# Altium schematic symbol library Diodes.SchLib: 11 symbols
Pins are listed as number, name and electrical type; pins without a type are passive.

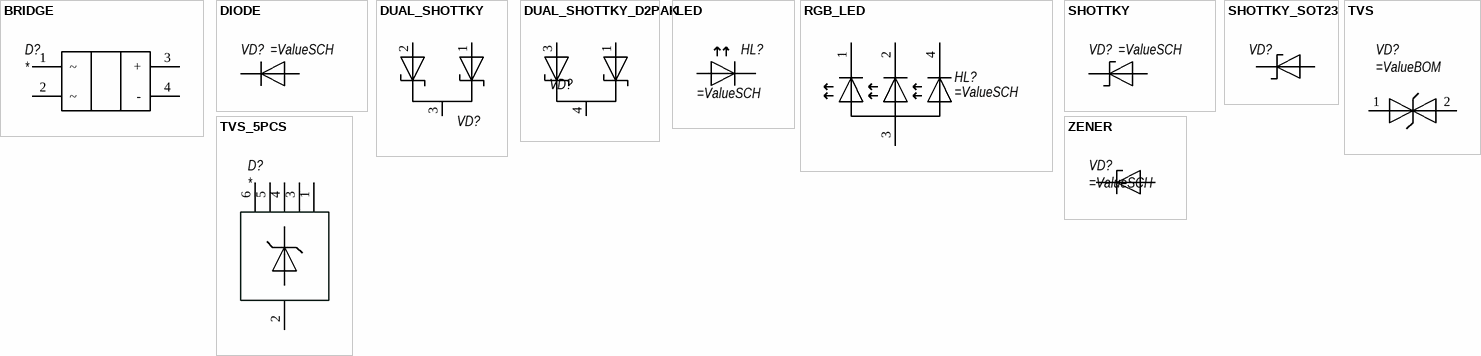
[diagram p0: symbols BRIDGE to ZENER]

## BRIDGE
designator D?
pins: 1 ~, 2 ~, 3 +, 4 -

## DIODE
designator VD?
pins: 1, 2

## DUAL_SHOTTKY
designator VD?
pins: 1, 2, 3

## DUAL_SHOTTKY_D2PAK
designator VD?
pins: 1, 3, 4

## LED
designator HL?
footprint LED_0603_RED
pins: 1, 2

## RGB_LED
designator HL?
footprint LED_0603_RED
pins: 1, 2, 3, 4

## SHOTTKY
designator VD?
pins: 1, 2

## SHOTTKY_SOT23
designator VD?
pins: 1, 3

## TVS
designator VD?
pins: 1, 2

## TVS_5PCS
designator D?
pins: 1 CATHODE, 2 ANODE, 3 CATHODE, 4 CATHODE, 5 CATHODE, 6 CATHODE

## ZENER
designator VD?
pins: 1, 2